# Altium schematic symbol library SCH - MEMORY - ALLIANCE 64MB TSOP-54.SCHLIB: 1 symbol
Pins are listed as number, name and electrical type; pins without a type are passive.

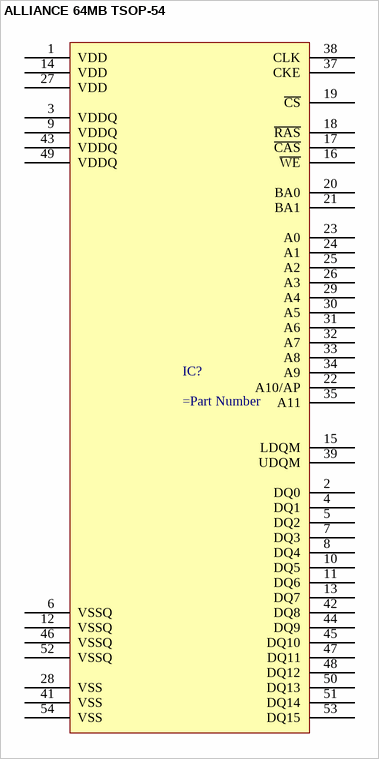
[diagram p0: symbol ALLIANCE 64MB TSOP-54]

## ALLIANCE 64MB TSOP-54
designator IC?
pins: 1 VDD, 2 DQ0, 3 VDDQ, 4 DQ1, 5 DQ2, 6 VSSQ, 7 DQ3, 8 DQ4, 9 VDDQ, 10 DQ5, 11 DQ6, 12 VSSQ, 13 DQ7, 14 VDD, 15 LDQM, 16 ~{WE}, 17 ~{CAS}, 18 ~{RAS}, 19 ~{CS}, 20 BA0, 21 BA1, 22 A10/AP, 23 A0, 24 A1, 25 A2, 26 A3, 27 VDD, 28 VSS, 29 A4, 30 A5, 31 A6, 32 A7, 33 A8, 34 A9, 35 A11, 37 CKE, 38 CLK, 39 UDQM, 41 VSS, 42 DQ8, 43 VDDQ, 44 DQ9, 45 DQ10, 46 VSSQ, 47 DQ11, 48 DQ12, 49 VDDQ, 50 DQ13, 51 DQ14, 52 VSSQ, 53 DQ15, 54 VSS